# EAGLE library part MKL02Z16VFM4 (library ubo_PQ60)
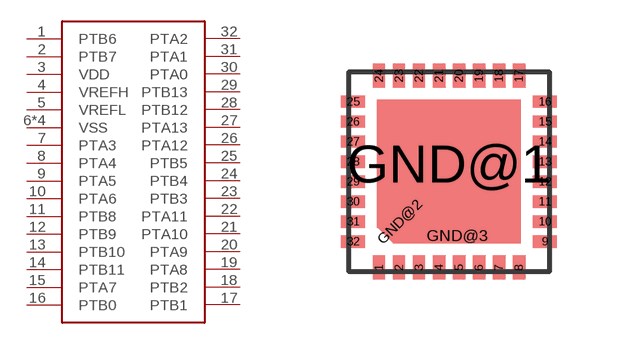
[diagram p21: symbol with the pads of MKL02Z16VFM4; footprint MKL02Z16VFM4]

Designator prefix -

## MKL02Z16VFM4  [MKL02Z16VFM4]
1  PTB6
2  PTB7
3  VDD
4  VREFH
5  VREFL
6  VSS
7  PTA3
8  PTA4
9  PTA5
10  PTA6
11  PTB8
12  PTB9
13  PTB10
14  PTB11
15  PTA7
16  PTB0
17  PTB1
18  PTB2
19  PTA8
20  PTA9
21  PTA10
22  PTA11
23  PTB3
24  PTB4
25  PTB5
26  PTA12
27  PTA13
28  PTB12
29  PTB13
30  PTA0
31  PTA1
32  PTA2
GND@1  VSS
GND@2  VSS
GND@3  VSS

## Footprint MKL02Z16VFM4 (pad centres in mm)
smd 0.3 x 0.6: 1 -1.75,-2.4; 2 -1.25,-2.4; 3 -0.75,-2.4; 4 -0.25,-2.4; 5 0.25,-2.4; 6 0.75,-2.4; 7 1.25,-2.4; 8 1.75,-2.4; 17 1.75,2.4; 18 1.25,2.4; 19 0.75,2.4; 20 0.25,2.4; 21 -0.25,2.4; 22 -0.75,2.4; 23 -1.25,2.4; 24 -1.75,2.4
smd 0.6 x 0.3: 9 2.4,-1.75; 10 2.4,-1.25; 11 2.4,-0.75; 12 2.4,-0.25; 13 2.4,0.25; 14 2.4,0.75; 15 2.4,1.25; 16 2.4,1.75; 25 -2.4,1.75; 26 -2.4,1.25; 27 -2.4,0.75; 28 -2.4,0.25; 29 -2.4,-0.25; 30 -2.4,-0.75; 31 -2.4,-1.25; 32 -2.4,-1.75
smd 3.6 x 3.2: GND@1 0,0.2
smd 0.566 x 1 rotated 315: GND@2 -1.246,-1.246
smd 3.2 x 0.4: GND@3 0.2,-1.6